# Altium footprint library QFN50P400X400X100-21N-D.PcbLib: 1 footprints
Each footprint in its own frame and in the unit in brackets; x right, y up, seen from the top. Pads: shape width x height; smd on the part's side, far side on the other; paste and mask are expansions set on the pad; w line width, h text height; cw(c..) or ccw(c..) is an arc to the next point about the centre after c.
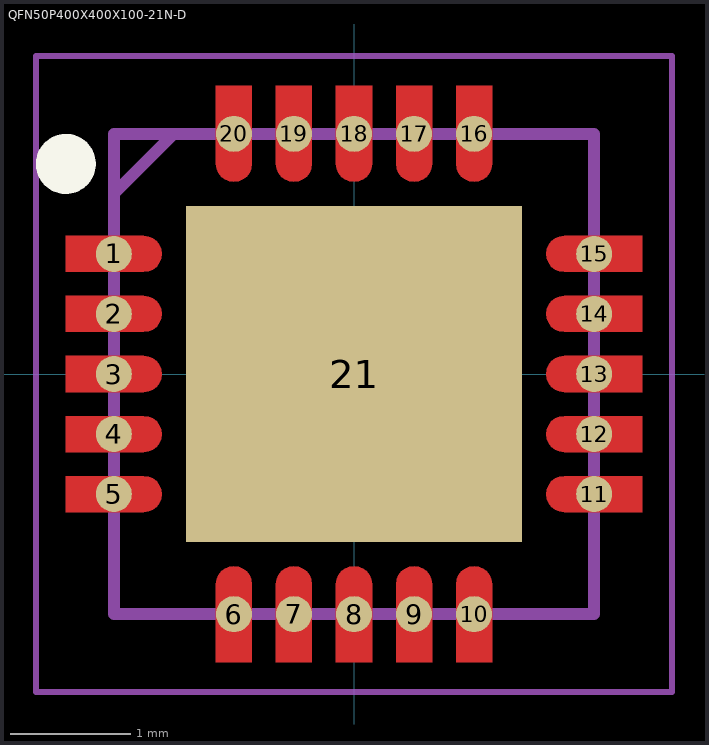
[diagram p0: the footprint, top view; thin cyan lines are the x and y axes]

## QFN50P400X400X100-21N-D [mm]
pads (21):
  round 0.3 smd: 1(-2,1) 2(-2,0.5) 3(-2,0) 4(-2,-0.5) 5(-2,-1) 6(-1,-2) 7(-0.5,-2) 8(0,-2) 9(0.5,-2) 10(1,-2) 11(2,-1) 12(2,-0.5) 13(2,0) 14(2,0.5) 15(2,1) 16(1,2) 17(0.5,2) 18(0,2) 19(-0.5,2) 20(-1,2)
  rect 2.8x2.8 smd: 21(0,0)
L1-Top Layer:
  region: -0.85,2.4 -0.85,1.75 -0.855,1.711 -0.87,1.675 -0.894,1.644 -0.925,1.62 -0.961,1.605 -1,1.6 -1.039,1.605 -1.075,1.62 -1.106,1.644 -1.13,1.675 -1.145,1.711 -1.15,1.75 -1.15,2.4
  region: -0.35,2.4 -0.35,1.75 -0.355,1.711 -0.37,1.675 -0.394,1.644 -0.425,1.62 -0.461,1.605 -0.5,1.6 -0.539,1.605 -0.575,1.62 -0.606,1.644 -0.63,1.675 -0.645,1.711 -0.65,1.75 -0.65,2.4
  region: 0.15,2.4 0.15,1.75 0.145,1.711 0.13,1.675 0.106,1.644 0.075,1.62 0.039,1.605 0,1.6 -0.039,1.605 -0.075,1.62 -0.106,1.644 -0.13,1.675 -0.145,1.711 -0.15,1.75 -0.15,2.4
  region: 0.65,2.4 0.65,1.75 0.645,1.711 0.63,1.675 0.606,1.644 0.575,1.62 0.539,1.605 0.5,1.6 0.461,1.605 0.425,1.62 0.394,1.644 0.37,1.675 0.355,1.711 0.35,1.75 0.35,2.4
  region: 1.15,2.4 1.15,1.75 1.145,1.711 1.13,1.675 1.106,1.644 1.075,1.62 1.039,1.605 1,1.6 0.961,1.605 0.925,1.62 0.894,1.644 0.87,1.675 0.855,1.711 0.85,1.75 0.85,2.4
  region: 2.4,0.85 1.75,0.85 1.711,0.855 1.675,0.87 1.644,0.894 1.62,0.925 1.605,0.961 1.6,1 1.605,1.039 1.62,1.075 1.644,1.106 1.675,1.13 1.711,1.145 1.75,1.15 2.4,1.15
  region: 2.4,0.35 1.75,0.35 1.711,0.355 1.675,0.37 1.644,0.394 1.62,0.425 1.605,0.461 1.6,0.5 1.605,0.539 1.62,0.575 1.644,0.606 1.675,0.63 1.711,0.645 1.75,0.65 2.4,0.65
  region: 2.4,-0.15 1.75,-0.15 1.711,-0.145 1.675,-0.13 1.644,-0.106 1.62,-0.075 1.605,-0.039 1.6,0 1.605,0.039 1.62,0.075 1.644,0.106 1.675,0.13 1.711,0.145 1.75,0.15 2.4,0.15
  region: 2.4,-0.65 1.75,-0.65 1.711,-0.645 1.675,-0.63 1.644,-0.606 1.62,-0.575 1.605,-0.539 1.6,-0.5 1.605,-0.461 1.62,-0.425 1.644,-0.394 1.675,-0.37 1.711,-0.355 1.75,-0.35 2.4,-0.35
  region: 2.4,-1.15 1.75,-1.15 1.711,-1.145 1.675,-1.13 1.644,-1.106 1.62,-1.075 1.605,-1.039 1.6,-1 1.605,-0.961 1.62,-0.925 1.644,-0.894 1.675,-0.87 1.711,-0.855 1.75,-0.85 2.4,-0.85
  region: 0.85,-2.4 0.85,-1.75 0.855,-1.711 0.87,-1.675 0.894,-1.644 0.925,-1.62 0.961,-1.605 1,-1.6 1.039,-1.605 1.075,-1.62 1.106,-1.644 1.13,-1.675 1.145,-1.711 1.15,-1.75 1.15,-2.4
  region: 0.35,-2.4 0.35,-1.75 0.355,-1.711 0.37,-1.675 0.394,-1.644 0.425,-1.62 0.461,-1.605 0.5,-1.6 0.539,-1.605 0.575,-1.62 0.606,-1.644 0.63,-1.675 0.645,-1.711 0.65,-1.75 0.65,-2.4
  region: -0.15,-2.4 -0.15,-1.75 -0.145,-1.711 -0.13,-1.675 -0.106,-1.644 -0.075,-1.62 -0.039,-1.605 0,-1.6 0.039,-1.605 0.075,-1.62 0.106,-1.644 0.13,-1.675 0.145,-1.711 0.15,-1.75 0.15,-2.4
  region: -0.65,-2.4 -0.65,-1.75 -0.645,-1.711 -0.63,-1.675 -0.606,-1.644 -0.575,-1.62 -0.539,-1.605 -0.5,-1.6 -0.461,-1.605 -0.425,-1.62 -0.394,-1.644 -0.37,-1.675 -0.355,-1.711 -0.35,-1.75 -0.35,-2.4
  region: -1.15,-2.4 -1.15,-1.75 -1.145,-1.711 -1.13,-1.675 -1.106,-1.644 -1.075,-1.62 -1.039,-1.605 -1,-1.6 -0.961,-1.605 -0.925,-1.62 -0.894,-1.644 -0.87,-1.675 -0.855,-1.711 -0.85,-1.75 -0.85,-2.4
  region: -2.4,-0.85 -1.75,-0.85 -1.711,-0.855 -1.675,-0.87 -1.644,-0.894 -1.62,-0.925 -1.605,-0.961 -1.6,-1 -1.605,-1.039 -1.62,-1.075 -1.644,-1.106 -1.675,-1.13 -1.711,-1.145 -1.75,-1.15 -2.4,-1.15
  region: -2.4,-0.35 -1.75,-0.35 -1.711,-0.355 -1.675,-0.37 -1.644,-0.394 -1.62,-0.425 -1.605,-0.461 -1.6,-0.5 -1.605,-0.539 -1.62,-0.575 -1.644,-0.606 -1.675,-0.63 -1.711,-0.645 -1.75,-0.65 -2.4,-0.65
  region: -2.4,0.15 -1.75,0.15 -1.711,0.145 -1.675,0.13 -1.644,0.106 -1.62,0.075 -1.605,0.039 -1.6,0 -1.605,-0.039 -1.62,-0.075 -1.644,-0.106 -1.675,-0.13 -1.711,-0.145 -1.75,-0.15 -2.4,-0.15
  region: -2.4,0.65 -1.75,0.65 -1.711,0.645 -1.675,0.63 -1.644,0.606 -1.62,0.575 -1.605,0.539 -1.6,0.5 -1.605,0.461 -1.62,0.425 -1.644,0.394 -1.675,0.37 -1.711,0.355 -1.75,0.35 -2.4,0.35
  region: -2.4,1.15 -1.75,1.15 -1.711,1.145 -1.675,1.13 -1.644,1.106 -1.62,1.075 -1.605,1.039 -1.6,1 -1.605,0.961 -1.62,0.925 -1.644,0.894 -1.675,0.87 -1.711,0.855 -1.75,0.85 -2.4,0.85
Top Overlay:
  circle w0.25: c-2.4,1.75 r0.125
Mechanical 15:
  lines w0.1: -2,1.5 -1.5,2 ; -2,-2 -2,2 2,2 2,-2 -2,-2
Mechanical 20:
  lines w0.05: -2.65,-2.65 -2.65,2.65 2.65,2.65 2.65,-2.65 -2.65,-2.65
3D body "DRV2667RGPT.stp": height 1, standoff 0, extent -2,-2 2,2